# Altium footprint library Inductor1.PcbLib: 19 footprints (part 2 of 2)
Each footprint in its own frame and in the unit in brackets; x right, y up, seen from the top. Pads: shape width x height; smd on the part's side, far side on the other; paste and mask are expansions set on the pad; w line width, h text height; cw(c..) or ccw(c..) is an arc to the next point about the centre after c.
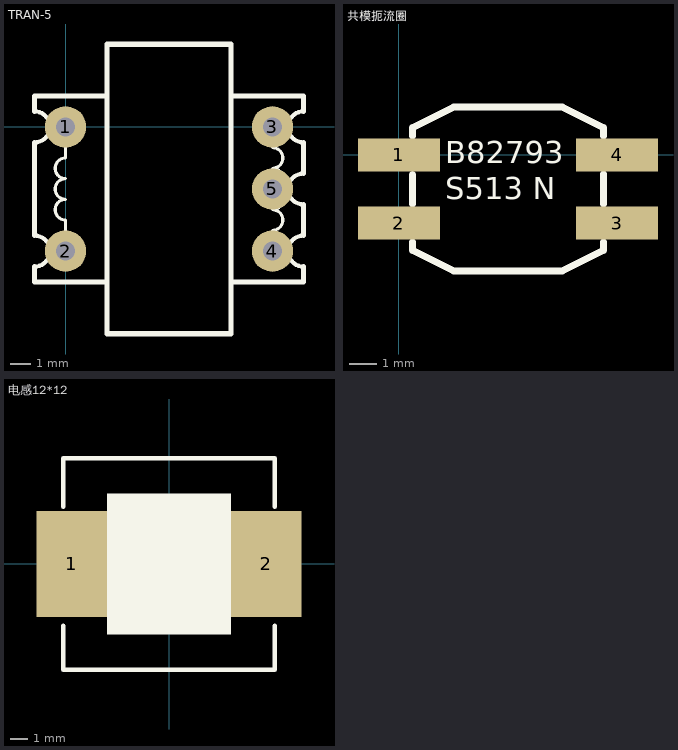
[diagram p1: the footprints below, top view; thin cyan lines are the x and y axes]

## TRAN-5 [mm]
pads (5):
  round 2 hole 0.93: 1(0,0) 2(0,-6) 3(10,0) 4(10,-6) 5(10,-3)
Top Overlay:
  lines w0.15: 0,-5.5 0,-5 0,-4.5 cw(c0,-4) 0,-3.5 cw(c0,-3) 0,-2.5 cw(c0,-2) 0,-1.5 0,-1 0,-0.5 ; 10,-5.5 10,-5 ccw(c10,-4.5) 10,-4 ccw(c10,-3.5) 10,-3 ccw(c10,-2.5) 10,-2 ccw(c10,-1.5) 10,-1 10,-0.5
  lines w0.2: -1.5,-6.75 ccw(c-1.5,-6) -1.5,-5.25 ; -1.5,-0.75 ccw(c-1.5,0) -1.5,0.75 ; 11.5,-6.75 cw(c11.5,-6) 11.5,-5.25 ; 11.5,-3.75 cw(c11.5,-3) 11.5,-2.25 ; 11.5,-0.75 cw(c11.5,0) 11.5,0.75
  lines w0.254: -1.5,-6.75 -1.5,-7.5 2,-7.5 ; -1.5,-5.25 -1.5,-0.75 ; -1.5,0.75 -1.5,1.5 2,1.5 ; 8,-7.5 11.5,-7.5 11.5,-6.75 ; 8,1.5 11.5,1.5 11.5,0.75 ; 11.5,-5.25 11.5,-3.75 ; 11.5,-2.25 11.5,-0.75 ; 2,-10 8,-10 8,4 2,4 2,-10

## 共模扼流圈 [mm] "B82793S0513N201"
height 4.9
pads (4):
  rect 3x1.2 smd: 1(0,0) 2(0,-2.5) 3(8,-2.5) 4(8,0)
Top Overlay:
  lines w0.254: 0.5,-3.2 0.5,-3.3 0.5,-3.5 2,-4.25 6,-4.25 7.5,-3.5 7.5,-3.3 7.5,-3.2 ; 0.5,-1.8 0.5,-0.724 ; 0.5,0.7 0.5,1 2,1.75 6,1.75 7.5,1 7.5,0.7 ; 7.5,-1.8 7.5,-0.8 7.5,-0.7
  text "S513 N" at 1.7,-1.625 h0.81
  text "B82793" at 1.7,-0.3 h0.81
3D body "User Library-EPCOS B82790-S513-N201.step": height 5, standoff -0.15, extent -0.5,-4.25 8.5,1.75

## 电感12*12 [mm]
height 7
pads (2):
  rect 4x6 smd: 1(-5.5,0) 2(5.5,0)
Top Overlay:
  rectangle: -3.5,-4 3.5,4
  lines w0.254: -6,-3.5 -6,-6 6,-6 6,-3.5 ; -6,3.25 -6,6 6,6 6,3.25
3D body "User Library-MSS1260.STEP": height 6.1, standoff -0.05, extent -6.15,-6.15 6.15,6.15